# Altium footprint library fszhang.PcbLib: 279 footprints (part 15 of 18)
Each footprint in its own frame and in the unit in brackets; x right, y up, seen from the top. Pads: shape width x height; smd on the part's side, far side on the other; paste and mask are expansions set on the pad; w line width, h text height; cw(c..) or ccw(c..) is an arc to the next point about the centre after c.
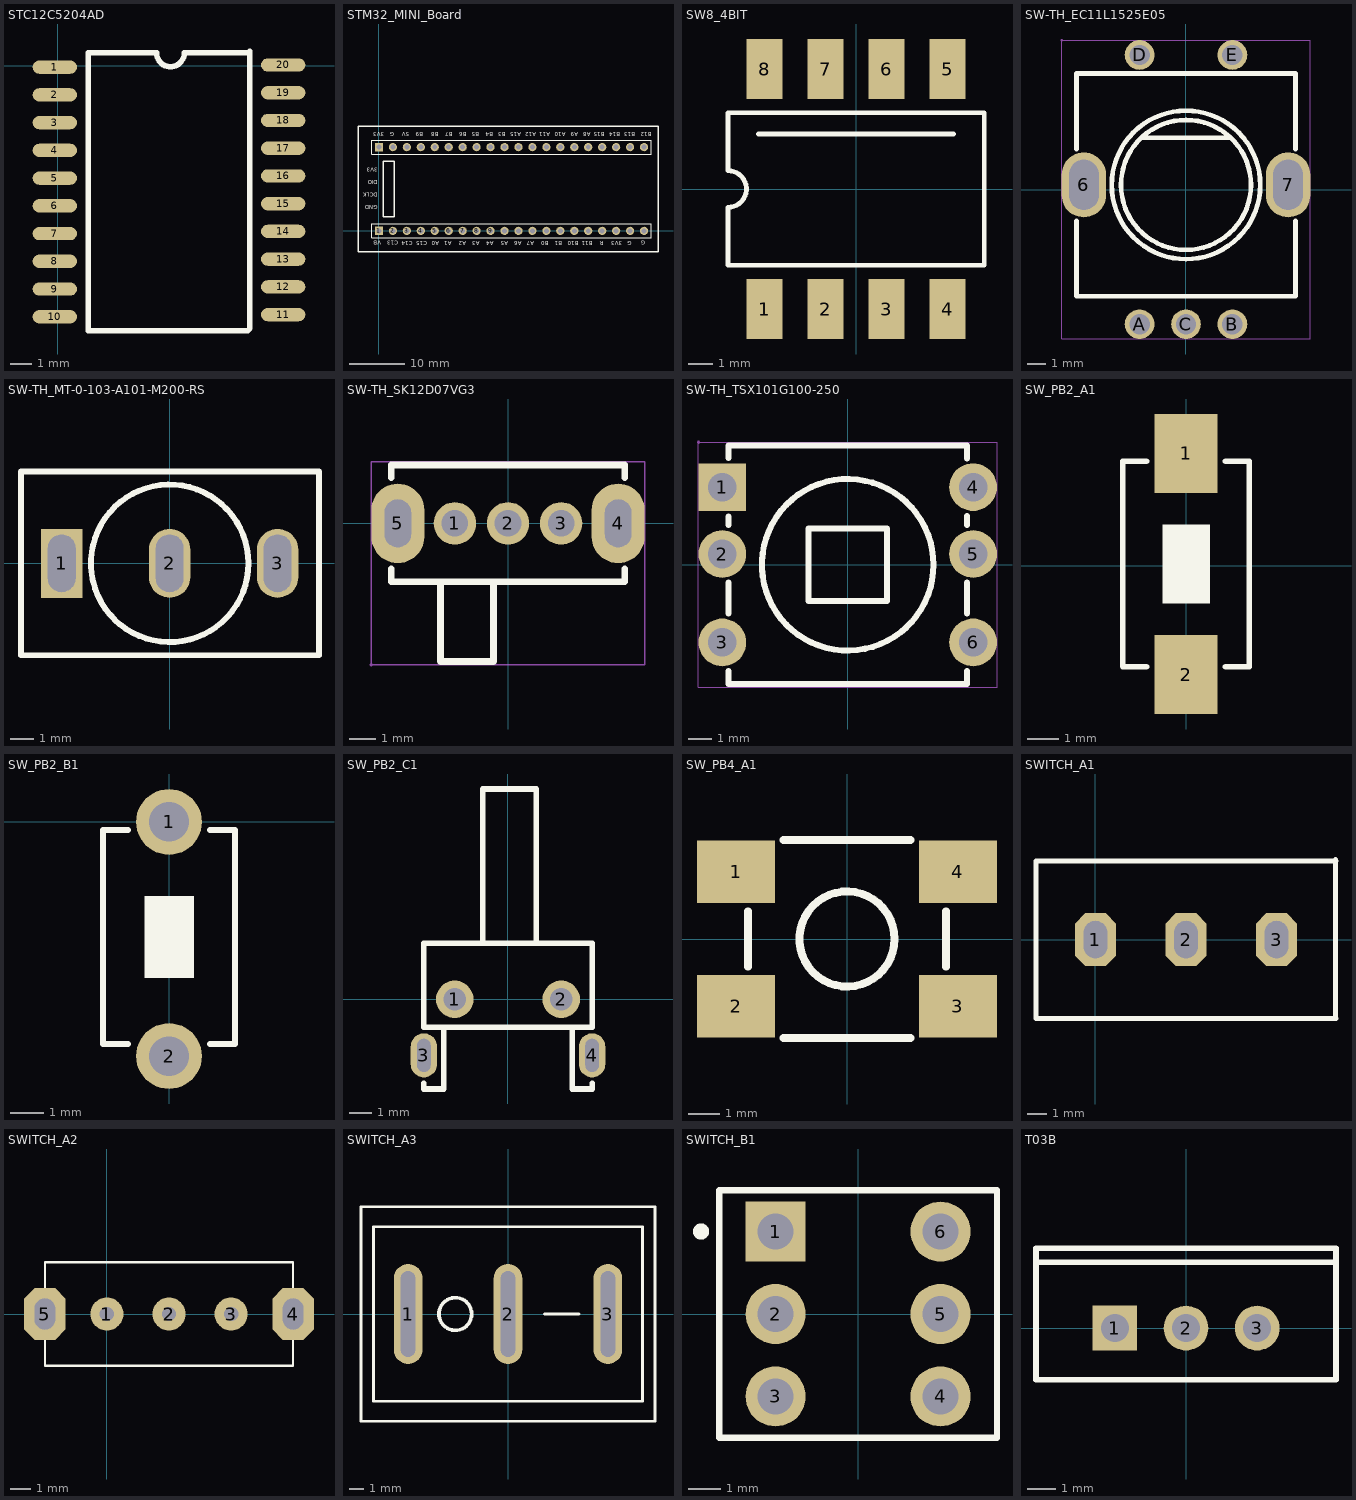
[diagram p14: the footprints below, top view; thin cyan lines are the x and y axes]

## STC12C5204AD [mil]
pads (20):
  oval 80x24 smd: 1(-5.11,-2.1) 2(-5.11,-52.1) 3(-5.11,-102.1) 4(-5.11,-152.1) 5(-5.11,-202.1) 6(-5.11,-252.1) 7(-5.11,-302.1) 8(-5.11,-352.1) 9(-5.11,-402.1) 10(-5.11,-452.1) 11(406.63,-448.16) 12(406.63,-398.16) 13(406.63,-348.16) 14(406.63,-298.16) 15(406.63,-248.16) 16(406.63,-198.16) 17(406.63,-148.16) 18(406.63,-98.16) 19(406.63,-48.16) 20(406.63,1.84)
Top Overlay:
  lines w10: 54.89,22.9 54.89,-477.1 342.69,-477.1 ; 55.61,23.62 178.35,23.62 ccw(c203.35,23.62) 228.35,23.62 343.41,23.62 ; 346.63,-473.16 346.63,26.84
3D body "User Library-sop-20-1.STEP": height 99.02, standoff 0, extent -2.87,-475 402.87,25

## STM32_MINI_Board [mm] "STM32_MINI_Board"
height 4.32
pads (40):
  rect 1.5x1.5 hole 0.9: 1(0,0) 40(0,15.24)
  round 1.5 hole 0.9: 2(2.54,0) 3(5.08,0) 4(7.62,0) 5(10.16,0) 6(12.7,0) 7(15.24,0) 8(17.78,0) 9(20.32,0) 10(22.86,0) 11(25.4,0) 12(27.94,0) 13(30.48,0) 14(33.02,0) 15(35.56,0) 16(38.1,0) 17(40.64,0) 18(43.18,0) 19(45.72,0) 20(48.26,0) 21(48.26,15.24) 22(45.72,15.24) 23(43.18,15.24) 24(40.64,15.24) 25(38.1,15.24) 26(35.56,15.24) 27(33.02,15.24) 28(30.48,15.24) 29(27.94,15.24) 30(25.4,15.24) 31(22.86,15.24) 32(20.32,15.24) 33(17.78,15.24) 34(15.24,15.24) 35(12.7,15.24) 36(10.16,15.24) 37(7.62,15.24) 38(5.08,15.24) 39(2.54,15.24)
Top Overlay:
  lines w0.2: -1.27,-1.27 -1.27,1.27 0.635,1.27 49.53,1.27 49.53,-1.27 -1.27,-1.27 ; -1.27,13.97 49.53,13.97 49.53,16.51 0.635,16.51 -1.27,16.51 -1.27,13.97
  lines w0.254: -3.81,-3.81 -3.81,19.05 50.8,19.05 50.8,-3.81 -3.81,-3.81 ; 0.762,2.54 2.794,2.54 2.794,12.7 0.762,12.7 0.762,2.54
  text "G" at 48.438,-1.778 h0.76
  text "G" at 46.025,-1.854 h0.76
  text "3V3" at 44.247,-1.854 h0.76
  text "R" at 40.945,-1.854 h0.76
  text "B11" at 38.913,-1.854 h0.76
  text "B10" at 36.373,-1.854 h0.76
  text "B1" at 33.325,-1.854 h0.76
  text "B0" at 30.912,-1.854 h0.76
  text "A7" at 28.245,-1.854 h0.76
  text "A6" at 25.959,-1.854 h0.76
  text "A5" at 23.546,-1.854 h0.76
  text "A4" at 20.879,-1.854 h0.76
  text "A3" at 18.339,-1.854 h0.76
  text "A2" at 15.926,-1.854 h0.76
  text "A1" at 13.259,-1.854 h0.76
  text "A0" at 10.973,-1.854 h0.76
  text "C15" at 8.814,-1.854 h0.76
  text "C14" at 6.147,-1.854 h0.76
  text "C13" at 3.498,-1.778 h0.76
  text "VB" at 0.381,-1.778 h0.76
  text "GND" at -0.203,4.623 h0.76
  text "DCLK" at -0.203,6.909 h0.76
  text "DIO" at -0.203,9.195 h0.76
  text "3V3" at -0.203,11.481 h0.76
  text "A11" at 31.206,17.989 h0.76
  text "A12" at 28.666,17.989 h0.76
  text "A15" at 25.872,17.989 h0.76
  text "B3" at 23.078,17.989 h0.76
  text "B4" at 20.792,17.989 h0.76
  text "B12" at 49.67,17.989 h0.76
  text "B13" at 46.7,17.989 h0.76
  text "B14" at 43.906,17.989 h0.76
  text "B15" at 41.112,17.989 h0.76
  text "A8" at 38.572,17.989 h0.76
  text "A9" at 36.286,17.989 h0.76
  text "A10" at 34,17.989 h0.76
  text "B7" at 13.426,17.989 h0.76
  text "B6" at 15.966,17.989 h0.76
  text "B5" at 18.252,17.989 h0.76
  text "B8" at 10.886,17.989 h0.76
  text "B9" at 8.092,17.989 h0.76
  text "5V" at 5.552,17.989 h0.76
  text "G" at 2.758,17.989 h0.76
  text "3V3" at 0.98,17.989 h0.76

## SW8_4BIT [mm] "贴片拨码开关"
height 1.75
pads (8):
  rect 1.5x2.5 smd: 1(-3.81,-5) 2(-1.27,-5) 3(1.27,-5) 4(3.81,-5) 5(3.81,5) 6(1.27,5) 7(-1.27,5) 8(-3.81,5)
Top Overlay:
  lines w0.2: -4.064,2.286 4.064,2.286 ; -5.334,-3.175 -5.334,-0.762 ccw(c-5.334,0) -5.334,0.762 -5.334,3.175 5.334,3.175 5.334,-3.175 -5.334,-3.175
3D body: height 2, standoff 0, extent -5.207,-3.429 5.08,3.429
3D body: height 2.05, standoff 2, extent -4.572,-2.032 -3.048,2.413
3D body: height 2.05, standoff 2, extent -2.032,-2.032 -0.508,2.413
3D body: height 2.05, standoff 2, extent 0.508,-2.032 2.032,2.413
3D body: height 2.05, standoff 2, extent 3.048,-2.032 4.572,2.413
3D body: height 2.15, standoff 2.05, extent -4.572,0.889 -3.048,2.413
3D body: height 2.15, standoff 2.05, extent -2.032,-2.032 -0.508,-0.508
3D body: height 2.15, standoff 2.05, extent 0.508,0.889 2.032,2.413
3D body: height 2.15, standoff 2.05, extent 3.048,0.889 4.572,2.413

## SW-TH_EC11L1525E05 [mm]
pads (7):
  oval 2.4x3.5 hole 1.6 slot 2.7 at 90 deg paste+0 mask+0.051: 6(-5.5,0.25) 7(5.5,0.25)
  round 1.6 hole 1.1 paste+0 mask+0.051: A(-2.5,-7.25) B(2.5,-7.25) C(0,-7.25) D(-2.5,7.25) E(2.5,7.25)
Top Overlay:
  circle w0.254: c0,0.25 r4
  circle w0.254: c0,0.25 r3.5
  lines w0.254: -5.9,-5.75 5.9,-5.75 5.9,-1.674 ; -5.9,-5.68 -5.9,-1.674 ; -5.9,2.174 -5.9,6.25 5.9,6.25 5.9,2.174 ; -2.41,2.79 2.32,2.79
Mechanical 15:
  region: -6.64,8.05 -6.64,8.075 -6.675,8.11 -6.725,8.11 -6.76,8.075 -6.76,8.05 -6.76,8.025 -6.725,7.99 -6.675,7.99 -6.64,8.025 -6.64,8.05
  region: -2.05,-7.25 -2.05,-7.161 -2.118,-6.995 -2.245,-6.869 -2.41,-6.8 -2.59,-6.8 -2.755,-6.869 -2.882,-6.995 -2.95,-7.161 -2.95,-7.25 -2.95,-7.34 -2.882,-7.505 -2.755,-7.632 -2.59,-7.7 -2.41,-7.7 -2.245,-7.632 -2.118,-7.505 -2.05,-7.34 -2.05,-7.25
  region: 0.45,-7.25 0.45,-7.161 0.381,-6.995 0.255,-6.869 0.089,-6.8 -0.09,-6.8 -0.255,-6.869 -0.382,-6.995 -0.45,-7.161 -0.45,-7.25 -0.45,-7.34 -0.382,-7.505 -0.255,-7.632 -0.09,-7.7 0.089,-7.7 0.255,-7.632 0.381,-7.505 0.45,-7.34 0.45,-7.25
  region: 2.95,-7.25 2.95,-7.161 2.882,-6.995 2.755,-6.869 2.59,-6.8 2.41,-6.8 2.245,-6.869 2.118,-6.995 2.05,-7.161 2.05,-7.25 2.05,-7.34 2.118,-7.505 2.245,-7.632 2.41,-7.7 2.59,-7.7 2.755,-7.632 2.882,-7.505 2.95,-7.34 2.95,-7.25
  region: -2.05,7.25 -2.05,7.34 -2.118,7.505 -2.245,7.632 -2.41,7.7 -2.59,7.7 -2.755,7.632 -2.882,7.505 -2.95,7.34 -2.95,7.25 -2.95,7.161 -2.882,6.995 -2.755,6.869 -2.59,6.8 -2.41,6.8 -2.245,6.869 -2.118,6.995 -2.05,7.161 -2.05,7.25
  region: 2.95,7.25 2.95,7.34 2.882,7.505 2.755,7.632 2.59,7.7 2.41,7.7 2.245,7.632 2.118,7.505 2.05,7.34 2.05,7.25 2.05,7.161 2.118,6.995 2.245,6.869 2.41,6.8 2.59,6.8 2.755,6.869 2.882,6.995 2.95,7.161 2.95,7.25
  region: -4.86,0.8 -4.86,-0.3 -6.14,-0.3 -6.14,0.8
  region: 4.86,-0.3 4.86,0.8 6.14,0.8 6.14,-0.3
  lines w0.051: -6.7,-8.05 6.7,-8.05 6.7,8.05 -6.7,8.05 -6.7,-8.05

## SW-TH_MT-0-103-A101-M200-RS [mm]
pads (3):
  rect 1.8x3 hole 1.2 slot 2.5 at 90 deg: 1(-4.7,0)
  oval 1.8x3 hole 1.2 slot 2.5 at 90 deg: 2(0,0) 3(4.7,0)
Top Overlay:
  circle w0.254: c0,0 r3.429
  lines w0.254: -6.477,-4 -6.477,4 6.5,4 6.5,-4 -6.477,-4
Mechanical 15:
  region: -0.4,1 0.4,1 0.4,-1 -0.4,-1
  region: -5.1,1 -4.3,1 -4.3,-1 -5.1,-1
  region: 4.3,1 5.1,1 5.1,-1 4.3,-1
  region: -6.44,-4 -6.44,-3.975 -6.475,-3.94 -6.525,-3.94 -6.56,-3.975 -6.56,-4 -6.56,-4.025 -6.525,-4.06 -6.475,-4.06 -6.44,-4.025 -6.44,-4
  lines w0.051: -6.5,-4 -6.5,4 6.5,4 6.5,-4 -6.5,-4

## SW-TH_SK12D07VG3 [mil]
pads (5):
  round 63 hole 39.4 mask+2: 1(-78.7,0) 2(0,0) 3(78.7,0)
  oval 78.7x118.1 hole 39.4 slot 70.9 at 90 deg mask+2: 4(163.4,0) 5(-163.4,0)
Top Overlay:
  lines w10: -173.2,-67.5 -173.2,-86.6 173.2,-86.6 173.2,-67.5 ; -173.2,67.5 -173.2,86.6 173.2,86.6 173.2,67.5 ; -100.1,-86.6 -100.1,-204.7 -21.4,-204.7 -21.4,-86.6
Mechanical 15:
  region: -147.6,15.7 -147.6,-15.7 -179.1,-15.7 -179.1,15.7
  region: 179.1,15.7 179.1,-15.7 147.6,-15.7 147.6,15.7
  region: 15.7,0 15.7,3.12 13.31,8.89 8.89,13.31 3.12,15.7 -3.12,15.7 -8.89,13.31 -13.31,8.89 -15.7,3.12 -15.7,0 -15.7,-3.12 -13.31,-8.89 -8.89,-13.31 -3.12,-15.7 3.12,-15.7 8.89,-13.31 13.31,-8.89 15.7,-3.12 15.7,0
  region: 94.4,0 94.4,3.12 92.01,8.89 87.59,13.31 81.82,15.7 75.58,15.7 69.81,13.31 65.39,8.89 63,3.12 63,0 63,-3.12 65.39,-8.89 69.81,-13.31 75.58,-15.7 81.82,-15.7 87.59,-13.31 92.01,-8.89 94.4,-3.12 94.4,0
  region: -63,0 -63,3.12 -65.39,8.89 -69.81,13.31 -75.58,15.7 -81.82,15.7 -87.59,13.31 -92.01,8.89 -94.4,3.12 -94.4,0 -94.4,-3.12 -92.01,-8.89 -87.59,-13.31 -81.82,-15.7 -75.58,-15.7 -69.81,-13.31 -65.39,-8.89 -63,-3.12 -63,0
  region: -200.4,-209.7 -200.4,-208.71 -201.81,-207.3 -203.79,-207.3 -205.2,-208.71 -205.2,-209.7 -205.2,-210.69 -203.79,-212.1 -201.81,-212.1 -200.4,-210.69 -200.4,-209.7
  lines w2: -202.8,-209.7 -202.8,91.6 202.8,91.6 202.8,-209.7 -202.8,-209.7

## SW-TH_TSX101G100-250 [mil]
pads (6):
  rect 78.7x78.7 hole 47.2 mask+2: 1(-206.7,128)
  round 78.7 hole 47.2 mask+2: 2(-206.7,17.7) 3(-206.7,-128) 4(206.7,128) 5(206.7,17.7) 6(206.7,-128)
Top Overlay:
  circle w10: c0,0 r141.4
  lines w10: -196.9,-175.4 -196.9,-196.8 196.8,-196.8 196.8,-175.4 ; -196.9,-80.5 -196.9,-29.7 ; -196.9,65.2 -196.9,79.5 ; -196.9,176.4 -196.9,196.9 196.8,196.9 196.8,175.4 ; 196.8,-80.5 196.8,-29.7 ; 196.8,65.2 196.8,80.5 ; -65,-60 65,-60 65,60 -65,60 -65,-60
Mechanical 15:
  region: -243.7,201.9 -243.7,202.89 -245.11,204.3 -247.09,204.3 -248.5,202.89 -248.5,201.9 -248.5,200.91 -247.09,199.5 -245.11,199.5 -243.7,200.91 -243.7,201.9
  region: -187,128 -187,131.92 -190,139.16 -195.54,144.7 -202.78,147.7 -210.62,147.7 -217.86,144.7 -223.4,139.16 -226.4,131.92 -226.4,128 -226.4,124.08 -223.4,116.84 -217.86,111.3 -210.62,108.3 -202.78,108.3 -195.54,111.3 -190,116.84 -187,124.08 -187,128
  region: -187,17.7 -187,21.62 -190,28.86 -195.54,34.4 -202.78,37.4 -210.62,37.4 -217.86,34.4 -223.4,28.86 -226.4,21.62 -226.4,17.7 -226.4,13.78 -223.4,6.54 -217.86,1 -210.62,-2 -202.78,-2 -195.54,1 -190,6.54 -187,13.78 -187,17.7
  region: -187,-128 -187,-124.08 -190,-116.84 -195.54,-111.3 -202.78,-108.3 -210.62,-108.3 -217.86,-111.3 -223.4,-116.84 -226.4,-124.08 -226.4,-128 -226.4,-131.92 -223.4,-139.16 -217.86,-144.7 -210.62,-147.7 -202.78,-147.7 -195.54,-144.7 -190,-139.16 -187,-131.92 -187,-128
  region: 226.4,128 226.4,131.92 223.4,139.16 217.86,144.7 210.62,147.7 202.78,147.7 195.54,144.7 190,139.16 187,131.92 187,128 187,124.08 190,116.84 195.54,111.3 202.78,108.3 210.62,108.3 217.86,111.3 223.4,116.84 226.4,124.08 226.4,128
  region: 226.4,17.7 226.4,21.62 223.4,28.86 217.86,34.4 210.62,37.4 202.78,37.4 195.54,34.4 190,28.86 187,21.62 187,17.7 187,13.78 190,6.54 195.54,1 202.78,-2 210.62,-2 217.86,1 223.4,6.54 226.4,13.78 226.4,17.7
  region: 226.4,-128 226.4,-124.08 223.4,-116.84 217.86,-111.3 210.62,-108.3 202.78,-108.3 195.54,-111.3 190,-116.84 187,-124.08 187,-128 187,-131.92 190,-139.16 195.54,-144.7 202.78,-147.7 210.62,-147.7 217.86,-144.7 223.4,-139.16 226.4,-131.92 226.4,-128
  lines w2: -246.1,-201.8 246.1,-201.8 246.1,201.9 -246.1,201.9 -246.1,-201.8

## SW_PB2_A1 [mm]
pads (2):
  rect 2x2.5 smd: 1(0,3.556) 2(0,-3.444)
Top Overlay:
  region: -0.747,1.309 -0.747,-1.191 0.753,-1.191 0.753,1.309
  lines w0.178: -1.25,-3.194 -2,-3.19 -2,3.306 -1.25,3.306 ; 1.25,-3.194 2,-3.194 2,3.306 1.25,3.306
3D body: height 0.8, standoff 0, extent -2.032,-3.175 2.032,3.302
3D body: height 1.2, standoff 0.8, extent -0.762,-1.143 0.762,1.27

## SW_PB2_B1 [mm]
pads (2):
  round 2 hole 1.2: 1(0,0) 2(0,-7.112)
Top Overlay:
  region: -0.747,-2.247 -0.747,-4.747 0.753,-4.747 0.753,-2.247
  lines w0.178: -1.25,-6.75 -2,-6.746 -2,-0.25 -1.25,-0.25 ; 1.25,-6.75 2,-6.75 2,-0.25 1.25,-0.25

## SW_PB2_C1 [mm] "侧卧微动开关"
height 8
pads (4):
  round 1.7 hole 1: 1(-2.413,0) 2(2.413,0)
  oval 1.2x2 hole 0.6 slot 1.5 at 90 deg: 3(-3.81,-2.54) 4(3.81,-2.54)
Top Overlay:
  lines w0.25: -3.81,-3.81 -3.81,-4.064 -2.921,-4.064 -2.921,-1.27 ; -1.143,2.54 -1.143,9.525 1.27,9.525 1.27,2.54 ; 2.921,-1.27 2.921,-4.064 3.81,-4.064 3.81,-3.81 ; -3.81,-1.27 3.81,-1.27 3.81,2.54 -3.81,2.54 -3.81,-1.27

## SW_PB4_A1 [mm]
pads (4):
  rect 2.5x2 smd: 1(-3.556,2.159) 2(-3.556,-2.159) 3(3.556,-2.159) 4(3.556,2.159)
Top Overlay:
  circle w0.254: c0,0 r1.524
  lines w0.25: -3.175,-0.889 -3.175,0.889 ; -2.032,-3.175 2.032,-3.175 ; -2.032,3.175 2.032,3.175 ; 3.175,-0.889 3.175,0.889
3D body: height 1.5, standoff 0, extent -3.175,-3.175 3.175,3.175
3D body: height 6, standoff 0, extent -1.524,-1.524 1.524,1.524

## SWITCH_A1 [mm] "扭子开关"
height 10
pads (3):
  oct 2.1x2.7 hole 1.2 slot 1.9 at 90 deg: 1(0,0) 2(4.6,0) 3(9.2,0)
Top Overlay:
  lines w0.254: 12.192,-3.972 12.192,4.064 ; 12.22,-4 -3.02,-4 -3.02,4 12.22,4

## SWITCH_A2 [mm] "平拨开关"
height 9
pads (5):
  round 1.6 hole 0.7: 1(0,0) 2(3,0) 3(6,0)
  oct 2x2.5 hole 1 slot 1.5 at 90 deg: 4(9,0) 5(-3,0)
Top Overlay:
  lines w0.1: -3,-2.5 9,-2.5 9,2.5 -3,2.5 -3,-2.5

## SWITCH_A3 [mm] "单刀单掷开关"
height 9
pads (3):
  oval 2x7 hole 1 slot 6 at 90 deg: 1(-6.985,0) 2(0,0) 3(6.985,0)
Top Overlay:
  circle w0.254: c-3.683,0 r1.143
  lines w0.2: 2.54,0 4.953,0 ; -10.287,-7.493 10.287,-7.493 10.287,7.493 -10.287,7.493 -10.287,-7.493 ; -9.398,-6.096 -9.398,6.096 9.398,6.096 9.398,-6.096 -9.398,-6.096

## SWITCH_B1 [mm] "单刀"
height 1.75
pads (6):
  rect 1.85x1.85 hole 1.1: 1(-2.54,2.54)
  round 1.85 hole 1.1: 2(-2.54,0) 3(-2.54,-2.54) 4(2.54,-2.54) 5(2.54,0) 6(2.54,2.54)
Top Overlay:
  circle w0.25: c-4.836,2.541 r0.125
  lines w0.2: -4.28,-3.81 -4.28,3.81 4.28,3.81 4.28,-3.81 -4.28,-3.81

## T03B [mm] "TO, Thru-Hole, Vertical, Heatsink Mounted; 3 In-Line Leads; Pitch 2.54 mm"
height 19.4
pads (3):
  rect 1.6x1.6 hole 1: 1(-2.54,0)
  round 1.6 hole 1: 2(0,0) 3(2.54,0)
Top Overlay:
  lines w0.2: -5.35,2.35 5.35,2.35 ; -5.35,-1.85 -5.35,2.85 5.35,2.85 5.35,-1.85 -5.35,-1.85